# Altium integrated library SS-77100-004.IntLib: 1 symbol
Pins are listed as number, name and electrical type; pins without a type are passive.

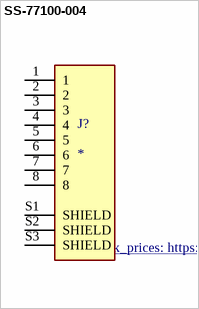
[diagram p0: symbol SS-77100-004]

## SS-77100-004
designator J?
ARJ45 | CAT 7/7a | Horizontal (90) | 8P 8C | PG4 Shielded; MF: Stewart Connector; MP: SS-77100-004; Value: *; Package: None; Digi-Key_Part_Number: 380-1125-ND; DigiKey-Purchase-URL: https://snapeda.com/shop?store=DigiKey&id=4628859; SnapEDA_Link: https://www.snapeda.com/parts/SS-77100-004/Stewart%20Connector/view-part/4628859/?ref=snap; Mouser-Purchase-URL: https://snapeda.com/shop?store=Mouser&id=4628859; Check_prices: https://www.snapeda.com/parts/SS-77100-004/Stewart%20Connector/view-part/4628859/?ref=eda
footprint BEL_SS-77100-004
pins: 1, 2, 3, 4, 5, 6, 7, 8, S1 SHIELD, S2 SHIELD, S3 SHIELD